# Altium schematic symbol library PenguinPi_v2.SchLib: 9 symbols
Pins are listed as number, name and electrical type; pins without a type are passive.

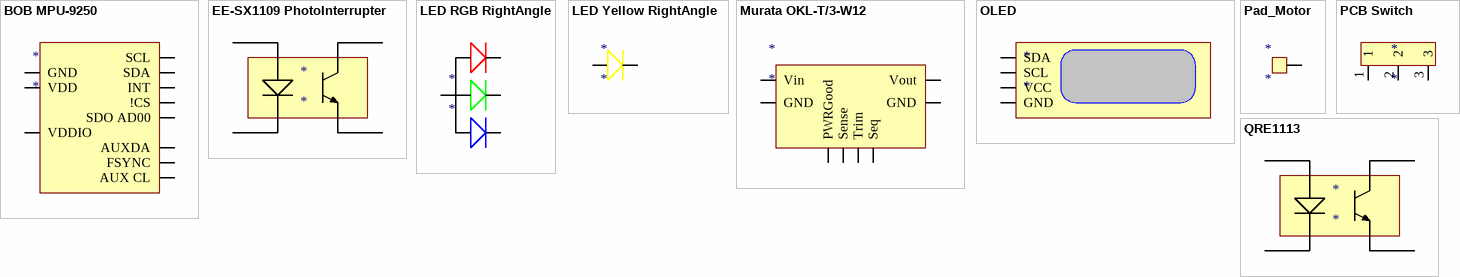
[diagram p0: symbols BOB MPU-9250 to QRE1113]

## BOB MPU-9250
designator *
footprint BOB MPU-9250
pins: 0 SCL, 1 SDA, 2 VDD, 3 GND, 4 AUXDA, 5 FSYNC, 6 AUX CL, 7 INT, 8 !CS, 9 SDO AD00, 10 VDDIO

## EE-SX1109 PhotoInterrupter
designator *
footprint EE-SX1109 (PhotoInterrupter ( E14 1461616 ))
pins: 1 K, 2 E, 3 C, 4 A

## LED RGB RightAngle
designator *
footprint LED RGB RightAngle
pins: 1 RED, 2 ANODE, 3 GREEN, 4 BLUE

## LED Yellow RightAngle
designator *
footprint LED YELLOW RightAngle
pins: 1 YELLOW, 2 ANODE

## Murata OKL-T/3-W12
designator *
footprint OKL-T/3-W12 (Murata Programmable Regulator)
pins: 2 Vin, 3 GND, 4 Vout, 5 Sense, 6 Trim, 7 GND, 9 Seq, 10 PWRGood

## OLED
designator *
footprint OLED
pins: 1 GND, 2 VCC, 3 SCL, 4 SDA

## Pad_Motor
designator *
footprint Pads_Motor
pins: 0

## PCB Switch
designator *
footprint PCB Switch (1101M2S3ABE2)
pins: 1, 2, 3

## QRE1113
designator *
footprint QRE1113GR (Digikey QRE1113GRCT-ND)
pins: 1 A, 2 K, 3 C, 4 E